# EAGLE library part STM32L476JX (library OAlib)
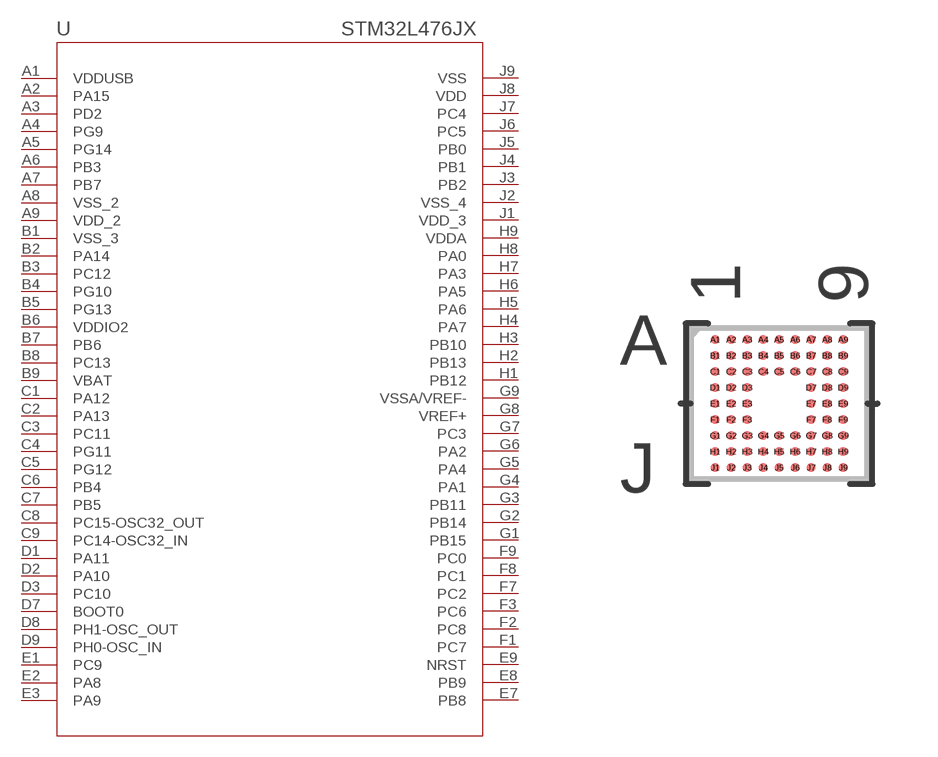
[diagram p2: symbol with the pads of WLCSP72; footprint WLCSP72]

Designator prefix U

## STM32L476JX (MANUFACTURER_PART_NUMBER: stm32l476jx; VENDOR: ST Microelectronics)  [WLCSP72]
A1  VDDUSB  pwr
A2  PA15
A3  PD2
A4  PG9
A5  PG14
A6  PB3
A7  PB7
A8  VSS_2  pwr
A9  VDD_2  pwr
B1  VSS_3  pwr
B2  PA14
B3  PC12
B4  PG10
B5  PG13
B6  VDDIO2  pwr
B7  PB6
B8  PC13
B9  VBAT  pwr
C1  PA12
C2  PA13
C3  PC11
C4  PG11
C5  PG12
C6  PB4
C7  PB5
C8  PC15-OSC32_OUT
C9  PC14-OSC32_IN
D1  PA11
D2  PA10
D3  PC10
D7  BOOT0  in
D8  PH1-OSC_OUT
D9  PH0-OSC_IN
E1  PC9
E2  PA8
E3  PA9
E7  PB8
E8  PB9
E9  NRST
F1  PC7
F2  PC8
F3  PC6
F7  PC2
F8  PC1
F9  PC0
G1  PB15
G2  PB14
G3  PB11
G4  PA1
G5  PA4
G6  PA2
G7  PC3
G8  VREF+  pwr
G9  VSSA/VREF-  pwr
H1  PB12
H2  PB13
H3  PB10
H4  PA7
H5  PA6
H6  PA5
H7  PA3
H8  PA0
H9  VDDA  pwr
J1  VDD_3  pwr
J2  VSS_4  pwr
J3  PB2
J4  PB1
J5  PB0
J6  PC5
J7  PC4
J8  VDD  pwr
J9  VSS  pwr

## Footprint WLCSP72 (pad centres in mm)
smd 0.229 x 0.229: A1 -1.6,1.6; A2 -1.2,1.6; A3 -0.8,1.6; A4 -0.4,1.6; A5 0,1.6; A6 0.4,1.6; A7 0.8,1.6; A8 1.2,1.6; A9 1.6,1.6; B1 -1.6,1.2; B2 -1.2,1.2; B3 -0.8,1.2; B4 -0.4,1.2; B5 0,1.2; B6 0.4,1.2; B7 0.8,1.2; B8 1.2,1.2; B9 1.6,1.2; C1 -1.6,0.8; C2 -1.2,0.8; C3 -0.8,0.8; C4 -0.4,0.8; C5 0,0.8; C6 0.4,0.8; C7 0.8,0.8; C8 1.2,0.8; C9 1.6,0.8; D1 -1.6,0.4; D2 -1.2,0.4; D3 -0.8,0.4; D7 0.8,0.4; D8 1.2,0.4; D9 1.6,0.4; E1 -1.6,0; E2 -1.2,0; E3 -0.8,0; E7 0.8,0; E8 1.2,0; E9 1.6,0; F1 -1.6,-0.4; F2 -1.2,-0.4; F3 -0.8,-0.4; F7 0.8,-0.4; F8 1.2,-0.4; F9 1.6,-0.4; G1 -1.6,-0.8; G2 -1.2,-0.8; G3 -0.8,-0.8; G4 -0.4,-0.8; G5 0,-0.8; G6 0.4,-0.8; G7 0.8,-0.8; G8 1.2,-0.8; G9 1.6,-0.8; H1 -1.6,-1.2; H2 -1.2,-1.2; H3 -0.8,-1.2; H4 -0.4,-1.2; H5 0,-1.2; H6 0.4,-1.2; H7 0.8,-1.2; H8 1.2,-1.2; H9 1.6,-1.2; J1 -1.6,-1.6; J2 -1.2,-1.6; J3 -0.8,-1.6; J4 -0.4,-1.6; J5 0,-1.6; J6 0.4,-1.6; J7 0.8,-1.6; J8 1.2,-1.6; J9 1.6,-1.6